# EAGLE library part 37208-62A3-004PL (library tm-econ)
3M™ Mini-Clamp Socket, 372 Series (4-2) 37208-62A3-004PL
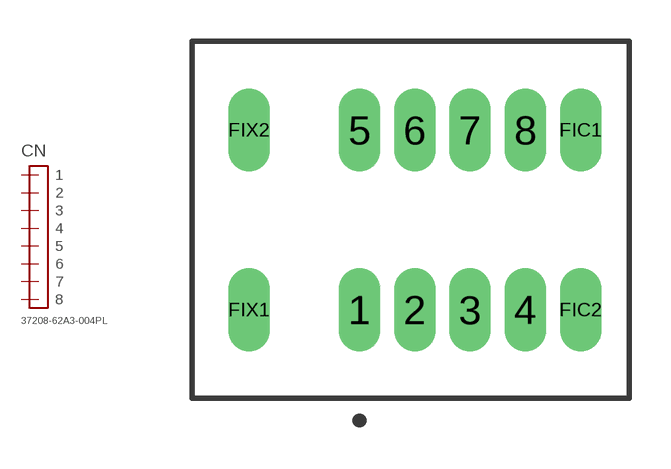
[diagram p1: symbol with the pads of ECON4X2; footprint ECON4X2]

Designator prefix CN

## 37208-62A3-004PL  [ECON4X2]
1  1
2  2
3  3
4  4
5  5
6  6
7  7
8  8

## Footprint ECON4X2 (pad centres in mm)
drill 1 long: 1 0,-3.25; 2 2,-3.25; 3 4,-3.25; 4 6,-3.25; 5 0,3.25; 6 2,3.25; 7 4,3.25; 8 6,3.25; FIC1 8,3.25; FIC2 8,-3.25; FIX1 -4,-3.25; FIX2 -4,3.25